# Altium footprint library TPS74201.PcbLib: 1 footprints
Each footprint in its own frame and in the unit in brackets; x right, y up, seen from the top. Pads: shape width x height; smd on the part's side, far side on the other; paste and mask are expansions set on the pad; w line width, h text height; cw(c..) or ccw(c..) is an arc to the next point about the centre after c.
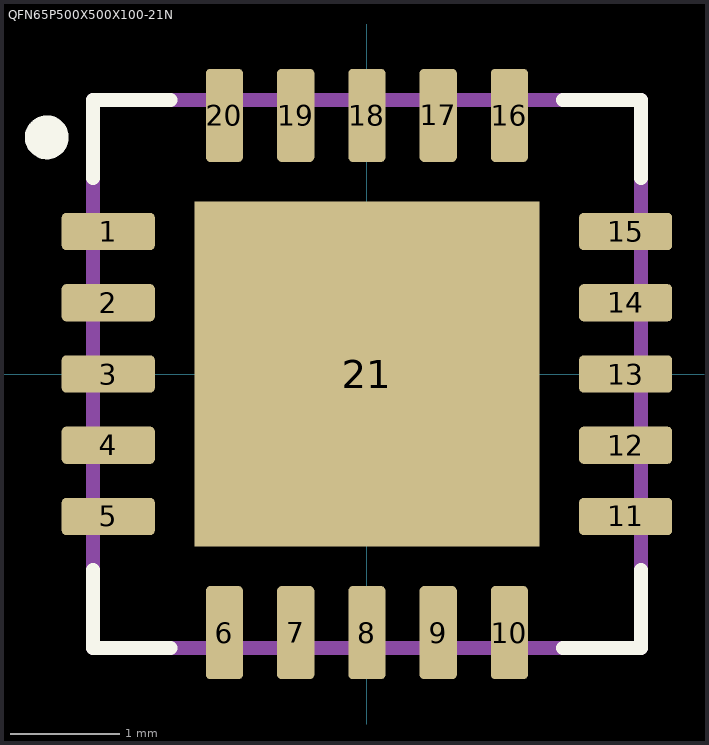
[diagram p0: the footprint, top view; thin cyan lines are the x and y axes]

## QFN65P500X500X100-21N [mm]
pads (21):
  rrect25% 0.85x0.34 smd: 1(-2.36,1.3) 2(-2.36,0.65) 3(-2.36,0) 4(-2.36,-0.65) 5(-2.36,-1.3) 11(2.36,-1.3) 12(2.36,-0.65) 13(2.36,0) 14(2.36,0.65) 15(2.36,1.3)
  rrect25% 0.34x0.85 smd: 6(-1.3,-2.36) 7(-0.65,-2.36) 8(0,-2.36) 9(0.65,-2.36) 10(1.3,-2.36) 16(1.3,2.36) 17(0.65,2.36) 18(0,2.36) 19(-0.65,2.36) 20(-1.3,2.36)
  rect 3.15x3.15 smd paste-3: 21(0,0)
Top Overlay:
  circle w0.2: c-2.921,2.159 r0.1
  lines w0.127: -2.5,-1.79 -2.5,-2.5 -1.79,-2.5 ; -2.5,1.79 -2.5,2.5 -1.79,2.5 ; 1.79,-2.5 2.5,-2.5 2.5,-1.79 ; 1.79,2.5 2.5,2.5 2.5,1.79
Top Paste:
  region: -0.195,-1.195 -1.195,-1.195 -1.195,-0.195 -0.195,-0.195
  region: -0.195,0.195 -1.195,0.195 -1.195,1.195 -0.195,1.195
  region: 1.195,0.195 0.195,0.195 0.195,1.195 1.195,1.195
  region: 1.195,-1.195 0.195,-1.195 0.195,-0.195 1.195,-0.195
Mechanical 13:
  lines w0.127: -2.5,-2.5 2.5,-2.5 2.5,2.5 -2.5,2.5 -2.5,-2.5
3D body "TPS74201RGWT.STEP": height 1, standoff 0, extent -2.5,-2.5 2.5,2.5